# EAGLE library part INA129_D_8 (library INA129)
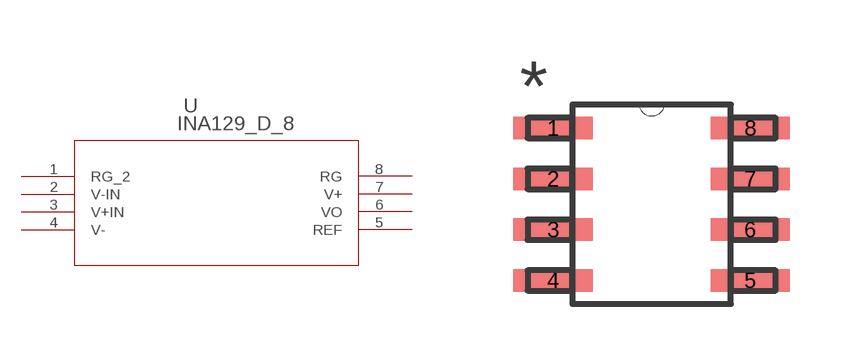
[diagram p0: symbol with the pads of D8; footprint D8]

Designator prefix U

## INA129_D_8 (DATASHEETURL: http://www.ti.com/lit/gpn/INA129; DESCRIPTION: Precision, Low Power Instrumentation Amplifiers; FAMILY_NAME: DUAL SUPPLY; GENERIC_PART_NUMBER: INA129; INDUSTRY_STD_PKG_TYPE: SOIC; MANUFACTURER: Texas Instruments; MANUFACTURER_PART_NUMBER: ina129_d_8; PACKAGE_DESIGNATOR: D; PIN_COUNT: 8; VENDOR: Texas Instruments)  [D8]
1  RG_2  pas
2  V-IN  in
3  V+IN  in
4  V-  pwr
5  REF  pas
6  VO  out
7  V+  pwr
8  RG  pas

## Footprint D8 (pad centres in mm)
smd 1.981 x 0.559: 1 -2.464,1.905; 2 -2.464,0.635; 3 -2.464,-0.635; 4 -2.464,-1.905; 5 2.464,-1.905; 6 2.464,-0.635; 7 2.464,0.635; 8 2.464,1.905